# Altium schematic symbol library TPS54540BQDDARQ1.SchLib: 1 symbol
Pins are listed as number, name and electrical type; pins without a type are passive.

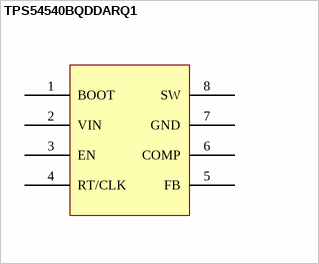
[diagram p0: symbol TPS54540BQDDARQ1]

## TPS54540BQDDARQ1
designator TPS54540BQDDARQ1
pins: 1 BOOT, 2 VIN, 3 EN, 4 RT/CLK, 5 FB, 6 COMP, 7 GND, 8 SW